# Altium footprint library PcbLib.PcbLib: 15 footprints
Each footprint in its own frame and in the unit in brackets; x right, y up, seen from the top. Pads: shape width x height; smd on the part's side, far side on the other; paste and mask are expansions set on the pad; w line width, h text height; cw(c..) or ccw(c..) is an arc to the next point about the centre after c.
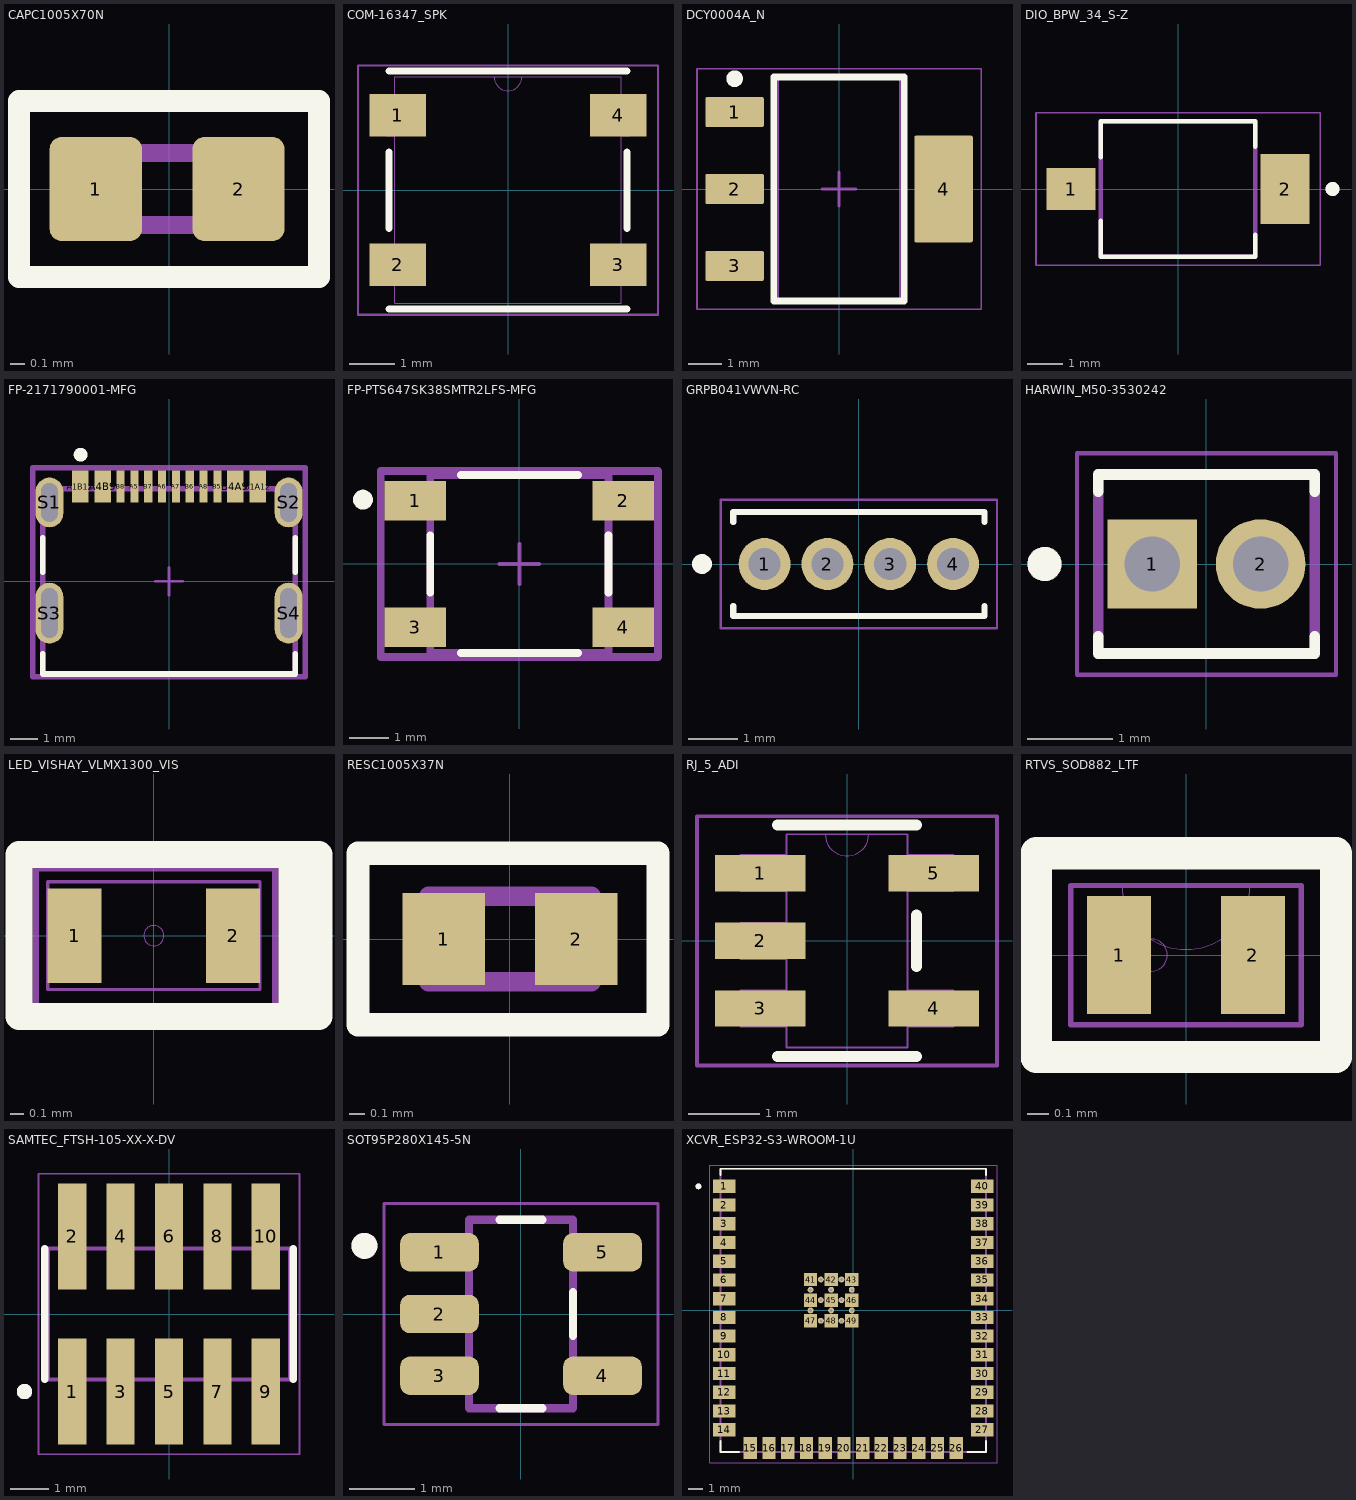
[diagram p0: the footprints below, top view; thin cyan lines are the x and y axes]

## CAPC1005X70N [mm]
height 0.7
pads (2):
  rrect25% 0.64x0.72 smd: 1(-0.508,0) 2(0.483,0)
Top Overlay:
  lines w0.152: -1.041,-0.61 -1.041,0.61 1.041,0.61 1.041,-0.61 -1.041,-0.61
Mechanical 13:
  lines w0.127: -0.5,-0.25 0.5,-0.25 0.5,0.25 -0.5,0.25 -0.5,-0.25
Mechanical 15:
  lines w0.05: -1.01,-0.61 -1.01,0.61 1.01,0.61 1.01,-0.61 -1.01,-0.61
3D body "step_temp.STEP": height 0.55, standoff 0, extent -0.5,-0.25 0.5,0.25

## COM-16347_SPK [mil]
pads (4):
  rect 49x37 smd paste+0 mask+0: 1(-96,64.96) 2(-96,-64.96) 3(96,-64.96) 4(96,64.96)
Top Overlay:
  lines w6: -103.5,-103.5 103.5,-103.5 ; -103.5,-33.36 -103.5,33.36 ; -103.5,103.5 103.5,103.5 ; 103.5,-33.36 103.5,33.36
Mechanical 13:
  lines w0: -12,98.5 ccw(c0,98.5) 12,98.5
  lines w1: -106.5,-82.46 -98.5,-82.46 -98.5,-47.46 -106.5,-47.46 -106.5,-82.46 ; -106.5,47.46 -98.5,47.46 -98.5,82.46 -106.5,82.46 -106.5,47.46 ; -98.5,-98.5 -98.5,98.5 98.5,98.5 98.5,-98.5 -98.5,-98.5 ; 98.5,-82.46 106.5,-82.46 106.5,-47.46 98.5,-47.46 98.5,-82.46 ; 98.5,47.46 106.5,47.46 106.5,82.46 98.5,82.46 98.5,47.46
Mechanical 15:
  lines w2: -130.5,-108.5 130.5,-108.5 130.5,108.5 -130.5,108.5 -130.5,-108.5
3D body "COM-16347_SPK.step": height 63.11, standoff 0.11, extent -106.5,-98.5 106.5,98.5

## DCY0004A_N [mm] "SOT223, 4-Leads, Body 6.7x3.7mm, Pitch 2.3mm, IPC Medium Density"
height 1.8
pads (4):
  rrect11% 1.75x0.9 smd: 1(-3.125,2.3) 2(-3.125,0) 3(-3.125,-2.3)
  rrect6% 1.75x3.2 smd: 4(3.125,0)
Top Overlay:
  circle w0.25: c-3.125,3.3 r0.125
  lines w0.2: -1.95,-3.35 1.95,-3.35 1.95,3.35 -1.95,3.35 -1.95,-3.35
Mechanical 1:
  text ".Designator" at -1.651,-0.254 h0.8
Mechanical 13:
  lines w0.1: -1.85,-3.35 1.85,-3.35 1.85,3.35 -1.85,3.35 -1.85,-3.35
Mechanical 15:
  lines w0.05: -4.25,-3.6 4.25,-3.6 4.25,3.6 -4.25,3.6 -4.25,-3.6
  lines w0.1: -0.5,0 0.5,0 ; 0,-0.5 0,0.5
3D body "SOT-223.stp": height 1.62, standoff -0.03, extent -3.5,-3.25 3.5,3.25

## DIO_BPW_34_S-Z [mm]
pads (2):
  rect 1.4x1.2 smd paste-0.05 mask+0.05: 1(-3.05,0)
  rect 1.4x2 smd paste-0.05 mask+0.05: 2(3.05,0)
Top Overlay:
  circle w0.2: c4.4,0 r0.1
  lines w0.127: -2.2,-0.91 -2.2,-1.925 2.2,-1.925 2.2,-1.31 ; -2.2,0.91 -2.2,1.925 2.2,1.925 2.2,1.21
Mechanical 13:
  circle w0.2: c4.4,0 r0.1
  lines w0.127: -2.2,-1.925 -2.2,1.925 2.2,1.925 2.2,-1.925 -2.2,-1.925
Mechanical 15:
  lines w0.05: -4.05,-2.175 -4.05,2.175 4.05,2.175 4.05,-2.175 -4.05,-2.175
3D body "step_temp.STEP": height 1.3, standoff 0, extent -3.225,-1.925 3.225,1.925

## FP-2171790001-MFG [mm]
pads (16):
  rect 0.6x1.15 smd paste+0 mask+0: A1B12(-3.2,3.425) A4B9(-2.4,3.425) B1A12(3.2,3.425) B4A9(2.4,3.425)
  rect 0.3x1.15 smd paste+0 mask+0: A5(-1.25,3.425) A6(-0.25,3.425) A7(0.25,3.425) A8(1.25,3.425) B5(1.75,3.425) B6(0.75,3.425) B7(-0.75,3.425) B8(-1.75,3.425)
  rrect100% 1x1.8 hole 1.4 slot 0.6 at 0 deg paste-2539.97 mask+0: S1(-4.32,2.85) S2(4.32,2.85)
  rrect100% 1x2.2 hole 1.8 slot 0.6 at 0 deg paste-2539.97 mask+0: S3(-4.32,-1.15) S4(4.32,-1.15)
Top Overlay:
  circle w0.25: c-3.195,4.575 r0.125
  lines w0.2: -4.57,-2.625 -4.57,-3.35 4.57,-3.35 4.57,-2.625 ; -4.57,0.325 -4.57,1.575 ; 4.57,0.325 4.57,1.575
Top 3D Body:
  lines w0.2: -4.57,-3.35 -4.57,3.35 4.57,3.35 4.57,-3.35 -4.57,-3.35
Top Courtyard:
  lines w0.2: -4.92,-3.45 -4.92,4.1 4.92,4.1 4.92,-3.45 -4.92,-3.45
Top Assembly:
  lines w0.2: -4.92,-3.45 -4.92,4.1 4.92,4.1 4.92,-3.45 -4.92,-3.45
  text ".Designator" at 0,0.513 h1
Top Component Center:
  lines w0.1: -0.5,0 0.5,0 ; 0,-0.5 0,0.5
3D body "Conn_Molex_2171790001_eec.STEP": height 0.25, standoff 0, extent -4.92,-3.45 4.92,4.1

## FP-PTS647SK38SMTR2LFS-MFG [mm]
pads (4):
  rect 1.55x1 smd paste+0 mask+0: 1(-2.625,1.6) 2(2.625,1.6) 3(-2.625,-1.6) 4(2.625,-1.6)
Top Overlay:
  circle w0.25: c-3.95,1.625 r0.125
  lines w0.2: -2.25,-0.725 -2.25,0.725 ; -1.475,-2.25 1.475,-2.25 ; -1.475,2.25 1.475,2.25 ; 2.25,-0.725 2.25,0.725
Top 3D Body:
  lines w0.2: -2.25,-2.25 -2.25,2.25 2.25,2.25 2.25,-2.25 -2.25,-2.25
Top Courtyard:
  lines w0.2: -3.5,-2.35 -3.5,2.35 3.5,2.35 3.5,-2.35 -3.5,-2.35
Top Assembly:
  lines w0.2: -3.5,-2.35 -3.5,2.35 3.5,2.35 3.5,-2.35 -3.5,-2.35
  text ".Designator" at 0,0.188 h1
Top Component Center:
  lines w0.1: -0.5,0 0.5,0 ; 0,-0.5 0,0.5
3D body "Switch_C&K_Components_PTS647SK38SMTR2LFS_eec.STEP": height 0.25, standoff 0, extent -3.5,-2.35 3.5,2.35

## GRPB041VWVN-RC [mm]
pads (4):
  round 1.05 hole 0.65: 1(-1.905,0) 2(-0.635,0) 3(0.635,0) 4(1.905,0)
Top Overlay:
  circle w0.2: c-3.17,0 r0.1
  lines w0.127: -2.54,-0.85 -2.54,-1.05 2.54,-1.05 2.54,-0.85 ; -2.54,0.85 -2.54,1.05 2.54,1.05 2.54,0.85
Mechanical 13:
  circle w0.2: c-3.17,0 r0.1
Mechanical 15:
  lines w0.05: -2.79,-1.3 -2.79,1.3 2.794,1.3 2.794,-1.3 -2.79,-1.3
3D body "step_temp.STEP": height 4, standoff -2.3, extent 0,-1.059 2.54,1.041
3D body "step_temp.STEP": height 4, standoff -2.3, extent -2.54,-1.059 0,1.041

## HARWIN_M50-3530242 [mm]
height 4.2
pads (2):
  rect 1.05x1.05 / inner round 1.05 / far side rect 1.05x1.05 hole 0.65 mask+0.102: 1(-0.635,0)
  round 1.05 hole 0.65 mask+0.102: 2(0.635,0)
Top Overlay:
  circle w0.2: c-1.9,0 r0.1
  lines w0.127: -1.27,-0.85 -1.27,-1.05 1.27,-1.05 1.27,-0.85 ; -1.27,0.85 -1.27,1.05 1.27,1.05 1.27,0.85
Mechanical 13:
  circle w0.2: c-1.9,0 r0.1
  lines w0.127: -1.27,-1.05 1.27,-1.05 1.27,1.05 -1.27,1.05 -1.27,-1.05
Mechanical 15:
  lines w0.05: -1.52,-1.3 1.52,-1.3 1.52,1.3 -1.52,1.3 -1.52,-1.3
3D body "step_temp.STEP": height 4, standoff -2.3, extent -1.321,-0.991 1.219,1.109

## LED_VISHAY_VLMX1300_VIS [mil]
pads (2):
  rect 16x28 smd paste+0 mask+0: 1(-23.5,0) 2(23.5,0)
Top Overlay:
  lines w8: 45,-24 45,24 ; 45,20 ccw(c41,20) 41,24 ; 41,-24 -40,-24 -40,24 41,24 ; 41,-24 41,24 ; 41,-24 49,-24 49,24 41,24
Mechanical 13:
  circle w0: c0,0 r3
  lines w1: -31.5,-16 31.5,-16 31.5,16 -31.5,16 -31.5,-16
Mechanical 15:
  lines w2: -35,-26 -35,20 36,20 36,-26 -35,-26
3D body "LED_VISHAY_VLMX1300_VIS.step": height 32.09, standoff 0, extent -31.5,-15.98 31.5,15.98

## RESC1005X37N [mm]
pads (2):
  rect 0.54x0.6 smd: 1(-0.432,0) 2(0.432,0)
Top Overlay:
  lines w0.152: -0.991,-0.559 0.965,-0.559 0.965,0.559 -0.991,0.559 -0.991,-0.559
Mechanical 13:
  lines w0.127: -0.53,-0.28 -0.53,0.28 0.53,0.28 0.53,-0.28 -0.53,-0.28
Mechanical 15:
  lines w0.05: -0.95,-0.55 -0.95,0.55 0.95,0.55 0.95,-0.55 -0.95,-0.55
3D body "step_temp.STEP": height 0.37, standoff 0, extent -0.5,-0.25 0.5,0.25

## RJ_5_ADI [mil]
pads (5):
  rect 50x20 smd paste+0 mask+0: 1(-48,37.4) 2(-48,0) 3(-48,-37.4) 4(48,-37.4) 5(48,37.4)
Top Overlay:
  lines w6: -38.5,-64 38.5,-64 ; -38.5,64 38.5,64 ; 38.5,-14.3 38.5,14.3
Mechanical 13:
  lines w0: -12,59 ccw(c0,59) 12,59
  lines w1: -59,-47.4 -59,-27.4 -33.5,-27.4 -33.5,-47.4 -59,-47.4 ; -59,-10 -59,10 -33.5,10 -33.5,-10 -59,-10 ; -59,27.4 -59,47.4 -33.5,47.4 -33.5,27.4 -59,27.4 ; -33.5,-59 33.5,-59 33.5,59 -33.5,59 -33.5,-59 ; 33.5,-47.4 33.5,-27.4 59,-27.4 59,-47.4 33.5,-47.4 ; 33.5,27.4 33.5,47.4 59,47.4 59,27.4 33.5,27.4
Mechanical 15:
  lines w2: -83,-69 -83,69 83,69 83,-69 -83,-69
3D body "RJ_5_ADI.step": height 57.09, standoff 0, extent -59.02,-59.02 59.02,59.02

## RTVS_SOD882_LTF [mil]
pads (2):
  rect 12x22 smd paste+0 mask+0: 1(-12.5,0) 2(12.5,0)
Top Overlay:
  lines w6: -28,-19 28,-19 28,19 -28,19 -28,-19
Mechanical 13:
  circle w0: c-6.5,0 r3
  lines w0: -12,13 ccw(c0,13) 12,13
  lines w1: -21.5,-13 -21.5,13 21.5,13 21.5,-13 -21.5,-13
Mechanical 15:
  lines w1.97: -27,-18 27,-18 27,18 -27,18 -27,-18
3D body "RTVS_SOD882_LTF.step": height 22.09, standoff 0, extent -21.5,-12.99 21.5,12.99

## SAMTEC_FTSH-105-XX-X-DV [mm]
pads (10):
  rect 0.74x2.79 smd: 1(-2.54,-2.035) 2(-2.54,2.035) 3(-1.27,-2.035) 4(-1.27,2.035) 5(0,-2.035) 6(0,2.035) 7(1.27,-2.035) 8(1.27,2.035) 9(2.54,-2.035) 10(2.54,2.035)
Top Overlay:
  circle w0.2: c-3.79,-2.035 r0.1
  lines w0.2: -3.26,-1.715 -3.26,1.715 ; 3.26,-1.715 3.26,1.715
Mechanical 13:
  circle w0.2: c-3.79,-2.035 r0.1
  lines w0.1: -3.175,-1.715 -3.175,1.715 3.175,1.715 3.175,-1.715 -3.175,-1.715
Mechanical 15:
  lines w0.05: -3.425,-3.68 -3.425,3.68 3.425,3.68 3.425,-3.68 -3.425,-3.68
3D body "step_temp.STEP": height 5.56, standoff -0.41, extent -3.175,-2.921 3.175,2.921

## SOT95P280X145-5N [mm]
pads (5):
  rrect50% 1.21x0.59 smd: 1(-1.255,0.95) 2(-1.255,0) 3(-1.255,-0.95) 4(1.255,-0.95) 5(1.255,0.95)
Top Overlay:
  circle w0.2: c-2.41,1.05 r0.1
  lines w0.127: -0.33,-1.45 0.33,-1.45 ; -0.33,1.45 0.33,1.45 ; 0.8,-0.335 0.8,0.335
Mechanical 13:
  circle w0.2: c-2.41,1.05 r0.1
  lines w0.127: -0.8,-1.45 0.8,-1.45 0.8,1.45 -0.8,1.45 -0.8,-1.45
Mechanical 15:
  lines w0.05: -2.11,-1.7 -2.11,1.7 2.11,1.7 2.11,-1.7 -2.11,-1.7
3D body "step_temp.STEP": height 1.45, standoff 0, extent -1.4,-1.45 1.4,1.45

## XCVR_ESP32-S3-WROOM-1U [mm]
height 3.35
pads (61):
  rect 1.5x0.9 smd: 1(-8.75,8.41) 2(-8.75,7.14) 3(-8.75,5.87) 4(-8.75,4.6) 5(-8.75,3.33) 6(-8.75,2.06) 7(-8.75,0.79) 8(-8.75,-0.48) 9(-8.75,-1.75) 10(-8.75,-3.02) 11(-8.75,-4.29) 12(-8.75,-5.56) 13(-8.75,-6.83) 14(-8.75,-8.1) 27(8.75,-8.1) 28(8.75,-6.83) 29(8.75,-5.56) 30(8.75,-4.29) 31(8.75,-3.02) 32(8.75,-1.75) 33(8.75,-0.48) 34(8.75,0.79) 35(8.75,2.06) 36(8.75,3.33) 37(8.75,4.6) 38(8.75,5.87) 39(8.75,7.14) 40(8.75,8.41)
  rect 0.9x1.5 smd: 15(-6.985,-9.35) 16(-5.715,-9.35) 17(-4.445,-9.35) 18(-3.175,-9.35) 19(-1.905,-9.35) 20(-0.635,-9.35) 21(0.635,-9.35) 22(1.905,-9.35) 23(3.175,-9.35) 24(4.445,-9.35) 25(5.715,-9.35) 26(6.985,-9.35)
  rect 0.9x0.9 smd: 41(-2.9,2.09) 42(-1.5,2.09) 43(-0.1,2.09) 44(-2.9,0.69) 45(-1.5,0.69) 46(-0.1,0.69) 47(-2.9,-0.71) 48(-1.5,-0.71) 49(-0.1,-0.71)
  round 0.4 hole 0.2 mask+0: 41_10(-2.2,2.09) 41_11(-0.8,2.09) 41_12(-2.9,1.39) 41_13(-1.5,1.39) 41_14(-0.1,1.39) 41_15(-2.2,0.69) 41_16(-0.8,0.69) 41_17(-2.9,-0.01) 41_18(-1.5,-0.01) 41_19(-0.1,-0.01) 41_20(-2.2,-0.71) 41_21(-0.8,-0.71)
Top Overlay:
  circle w0.2: c-10.5,8.41 r0.1
  lines w0.127: -9,-8.87 -9,-9.6 -7.755,-9.6 ; -9,9.18 -9,9.6 9,9.6 9,9.18 ; 7.755,-9.6 9,-9.6 9,-8.87
Mechanical 13:
  circle w0.2: c-10.5,8.41 r0.1
  lines w0.127: -9,-9.6 9,-9.6 9,9.6 -9,9.6 -9,-9.6
Mechanical 15:
  lines w0.05: -9.75,-10.35 -9.75,9.85 9.75,9.85 9.75,-10.35 -9.75,-10.35
3D body "step_temp.STEP": height 3.35, standoff 0, extent -9,-9.6 9,9.6